# EAGLE library part ADG1419BCPZ (library Deegou_IC)
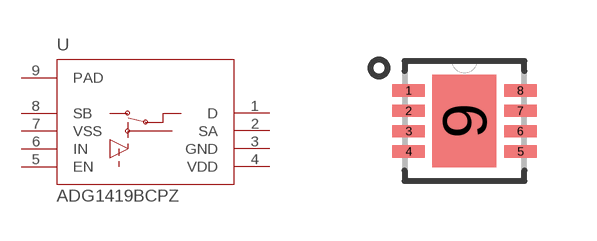
[diagram p136: symbol with the pads of LFCSP_WD; footprint LFCSP_WD]

Designator prefix U

## ADG1419BCPZ  [LFCSP_WD]
1  D
2  SA
3  GND
4  VDD
5  EN
6  IN
7  VSS
8  SB
9  PAD

## Footprint LFCSP_WD (pad centres in mm)
smd 0.813 x 0.305: 1 -1.397,0.762; 2 -1.397,0.254; 3 -1.397,-0.254; 4 -1.397,-0.762; 5 1.397,-0.762; 6 1.397,-0.254; 7 1.397,0.254; 8 1.397,0.762
smd 1.6 x 2.311: 9 0,0